# Altium footprint library Flex_R_0402(1005).PcbLib: 1 footprints
Each footprint in its own frame and in the unit in brackets; x right, y up, seen from the top. Pads: shape width x height; smd on the part's side, far side on the other; paste and mask are expansions set on the pad; w line width, h text height; cw(c..) or ccw(c..) is an arc to the next point about the centre after c.
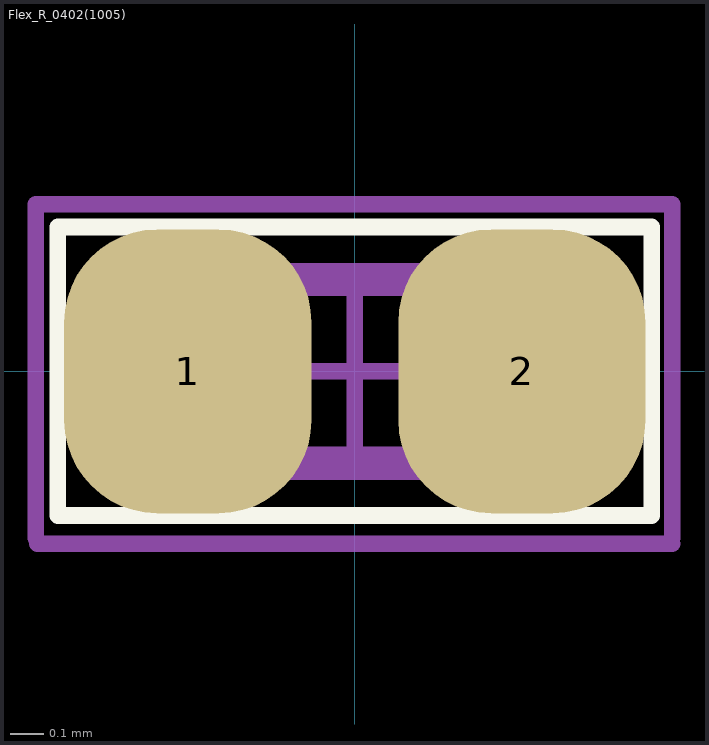
[diagram p0: the footprint, top view; thin cyan lines are the x and y axes]

## Flex_R_0402(1005) [mm]
pads (2):
  rrect75% 0.74x0.85 smd paste-0.13 mask-0.1: 1(-0.5,0) 2(0.5,0)
Top Overlay:
  lines w0.05: -0.889,-0.432 0.889,-0.432 0.889,0.432 -0.889,0.432 -0.889,-0.432
Mechanical 13:
  lines w0.1: -0.525,-0.275 -0.525,0.275 0.525,0.275 0.525,-0.275 -0.525,-0.275
Mechanical 15:
  lines w0.05: -0.955,-0.5 -0.955,0.5 ; -0.95,-0.516 0.95,-0.516 ; -0.95,0.5 0.95,0.5 0.95,-0.5 ; -0.275,0 0.275,0 ; 0,-0.275 0,0.275
3D body: height 0.4, standoff 0, extent 0.3,-0.275 0.525,0.275
3D body: height 0.4, standoff 0, extent -0.3,-0.275 0.3,0.275
3D body: height 0.4, standoff 0, extent -0.525,-0.275 -0.3,0.275